# EAGLE library part DOMINO (library Domino)
GL-Connect Domino WiFi Module
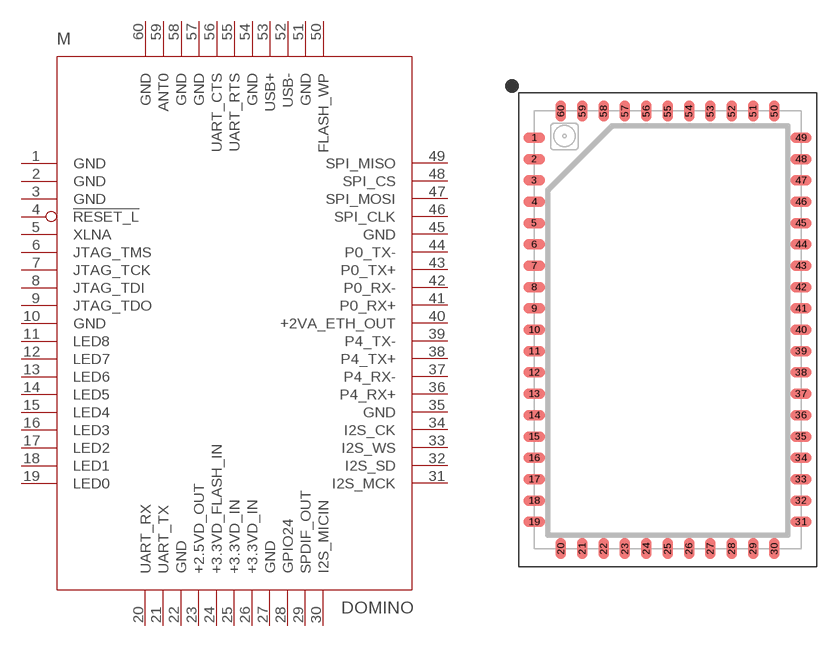
[diagram p0: symbol with the pads of DOMINO; footprint DOMINO]

Designator prefix M

## DOMINO  [DOMINO]
1  GND  pwr
2  GND  pwr
3  GND  pwr
4  !RESET_L  in
5  XLNA
6  JTAG_TMS
7  JTAG_TCK
8  JTAG_TDI
9  JTAG_TDO
10  GND  pwr
11  LED8
12  LED7
13  LED6
14  LED5
15  LED4
16  LED3
17  LED2
18  LED1
19  LED0
20  UART_RX
21  UART_TX
22  GND  pwr
23  +2.5VD_OUT  sup
24  +3.3VD_FLASH_IN  pwr
25  +3.3VD_IN  pwr
26  +3.3VD_IN  pwr
27  GND  pwr
28  GPIO24
29  SPDIF_OUT
30  I2S_MICIN
31  I2S_MCK
32  I2S_SD
33  I2S_WS
34  I2S_CK
35  GND  sup
36  P4_RX+  pas
37  P4_RX-  pas
38  P4_TX+  pas
39  P4_TX-  pas
40  +2VA_ETH_OUT  sup
41  P0_RX+  pas
42  P0_RX-  pas
43  P0_TX+  pas
44  P0_TX-  pas
45  GND  sup
46  SPI_CLK
47  SPI_MOSI
48  SPI_CS
49  SPI_MISO
50  FLASH_WP
51  GND  pwr
52  USB-  pas
53  USB+  pas
54  GND  pwr
55  UART_RTS
56  UART_CTS
57  GND  pwr
58  GND  pwr
59  ANT0  pas
60  GND  pwr

## Footprint DOMINO (pad centres in mm)
GL-Connect Domino WiFi Module
smd 2 x 1: 1 -12.5,18; 2 -12.5,16; 3 -12.5,14; 4 -12.5,12; 5 -12.5,10; 6 -12.5,8; 7 -12.5,6; 8 -12.5,4; 9 -12.5,2; 10 -12.5,0; 11 -12.5,-2; 12 -12.5,-4; 13 -12.5,-6; 14 -12.5,-8; 15 -12.5,-10; 16 -12.5,-12; 17 -12.5,-14; 18 -12.5,-16; 19 -12.5,-18; 31 12.5,-18; 32 12.5,-16; 33 12.5,-14; 34 12.5,-12; 35 12.5,-10; 36 12.5,-8; 37 12.5,-6; 38 12.5,-4; 39 12.5,-2; 40 12.5,0; 41 12.5,2; 42 12.5,4; 43 12.5,6; 44 12.5,8; 45 12.5,10; 46 12.5,12; 47 12.5,14; 48 12.5,16; 49 12.5,18
smd 1 x 2: 20 -10,-20.5; 21 -8,-20.5; 22 -6,-20.5; 23 -4,-20.5; 24 -2,-20.5; 25 0,-20.5; 26 2,-20.5; 27 4,-20.5; 28 6,-20.5; 29 8,-20.5; 30 10,-20.5; 50 10,20.5; 51 8,20.5; 52 6,20.5; 53 4,20.5; 54 2,20.5; 55 0,20.5; 56 -2,20.5; 57 -4,20.5; 58 -6,20.5; 59 -8,20.5; 60 -10,20.5